# Altium footprint library bat.PcbLib: 1 footprints
Each footprint in its own frame and in the unit in brackets; x right, y up, seen from the top. Pads: shape width x height; smd on the part's side, far side on the other; paste and mask are expansions set on the pad; w line width, h text height; cw(c..) or ccw(c..) is an arc to the next point about the centre after c.
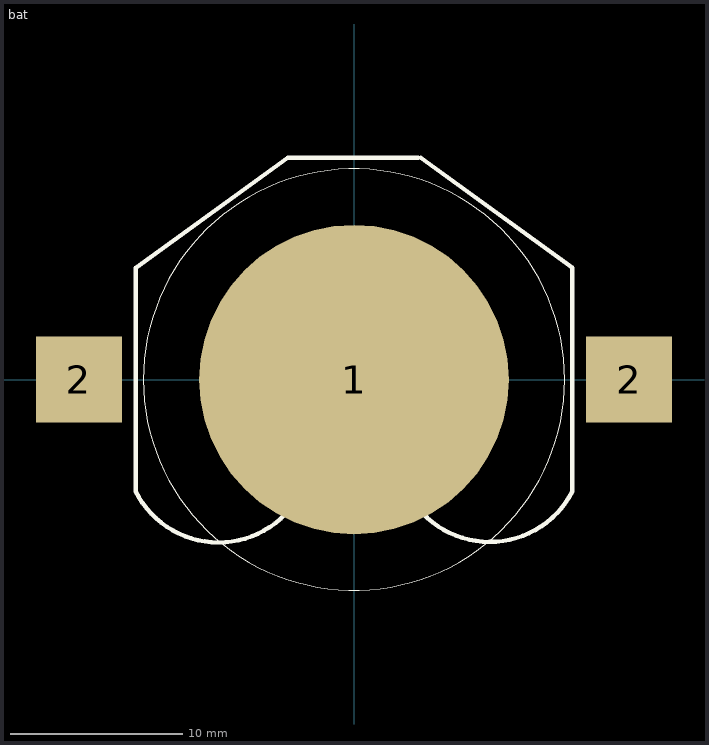
[diagram p0: the footprint, top view; thin cyan lines are the x and y axes]

## bat [mm]
height 0.55
pads (3):
  round 18 smd: 1(0,0)
  rect 5x5 smd: 2(-16,0) 2(16,0)
Top Overlay:
  circle w0.025: c0,0 r12.25
  lines w0.254: -3.086,-6.522 cw(c0,-7.793) 3.064,-6.469 ccw(c7.89,-4.033) 12.7,-6.5 12.7,0 12.7,6.5 3.877,12.9 ; -3.064,-6.531 cw(c-7.874,-4.064) -12.7,-6.5 -12.7,0 -12.7,6.5 -12.677,6.5 -3.854,12.9 -0.054,12.9 3.746,12.9